# Altium schematic symbol library TPH6R30ANL,L1Q.SchLib: 1 symbol
Pins are listed as number, name and electrical type; pins without a type are passive.

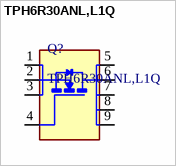
[diagram p0: symbol TPH6R30ANL,L1Q]

## TPH6R30ANL,L1Q
designator Q?
MOSFET U-MOSVIII-H 100V 66A 55nC MOSFET; Manufacturer: Toshiba; Vgs(max): 20V; Rds(on): 5.1m; PN: TPH6R30ANL,L1Q; Vds(max): 100V; Id(max): 66A; Footprint: SOP-Advance-8; Package: SOP-Advance-8; Supplier 1: Mouser; Supplier Part Number 1: 757-TPH6R30ANLL1Q
footprint SOP-Advance-8 (Package for TPH6R30ANL,L1Q)
pins: 1 S, 2 S, 3 S, 4 G, 5 D, 6 D, 7 D, 8 D, 9 D